# Altium footprint library DSC1101CI5-020.0000T.PcbLib: 1 footprints
Each footprint in its own frame and in the unit in brackets; x right, y up, seen from the top. Pads: shape width x height; smd on the part's side, far side on the other; paste and mask are expansions set on the pad; w line width, h text height; cw(c..) or ccw(c..) is an arc to the next point about the centre after c.
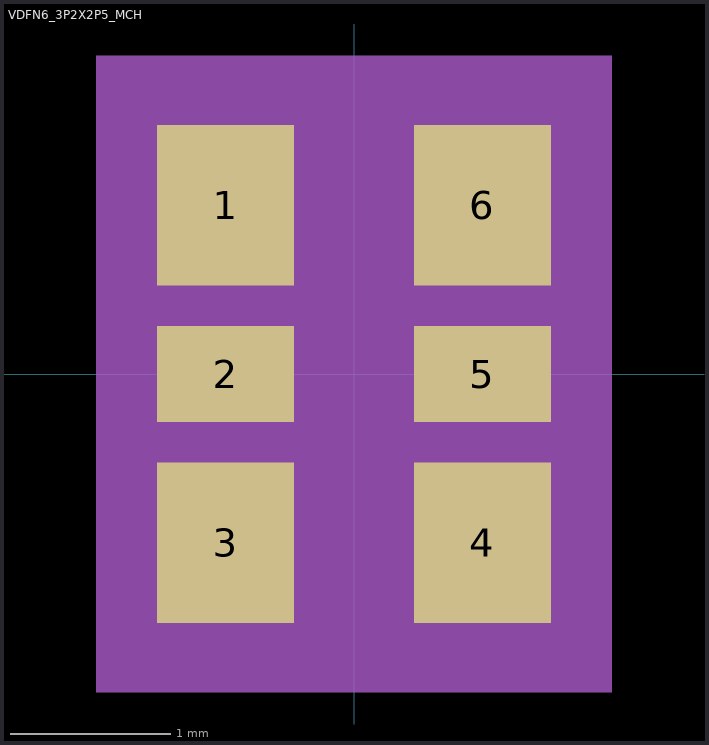
[diagram p0: the footprint, top view; thin cyan lines are the x and y axes]

## VDFN6_3P2X2P5_MCH [mm]
pads (6):
  rect 0.85x1 smd paste-0.425 mask+0: 1(-0.8,1.05) 3(-0.8,-1.05) 4(0.8,-1.05) 6(0.8,1.05)
  rect 0.85x0.6 smd paste+0 mask+0: 2(-0.8,0) 5(0.8,0)
Mechanical 5:
  region: 1.606,-1.981 -1.606,-1.981 -1.606,1.981 1.606,1.981
Mechanical 13:
  lines w0: -0.305,1.6 ccw(c0,1.6) 0.305,1.6
  lines w0.025: -1.25,-1.6 -1.25,1.6 1.25,1.6 1.25,-1.6 -1.25,-1.6
Mechanical 15:
  region: -1.504,-1.804 -1.504,1.804 -1.504,1.854 1.504,1.854 1.504,1.804 1.504,-1.804 1.504,-1.854 -1.504,-1.854
  lines w0.152: -1.504,-1.854 1.504,-1.854 1.504,-1.804 1.504,1.804 1.504,1.854 -1.504,1.854 -1.504,1.804 -1.504,-1.804 -1.504,-1.854
3D body "VDFN6_3P2X2P5_MCH.step": height 0.65, standoff 0, extent -1.25,-1.6 1.25,1.6
3D body: height 0.25, standoff 0, extent 0,0 0.254,0.254